# Altium footprint library RC NES connector.PcbLib: 1 footprints
Each footprint in its own frame and in the unit in brackets; x right, y up, seen from the top. Pads: shape width x height; smd on the part's side, far side on the other; paste and mask are expansions set on the pad; w line width, h text height; cw(c..) or ccw(c..) is an arc to the next point about the centre after c.
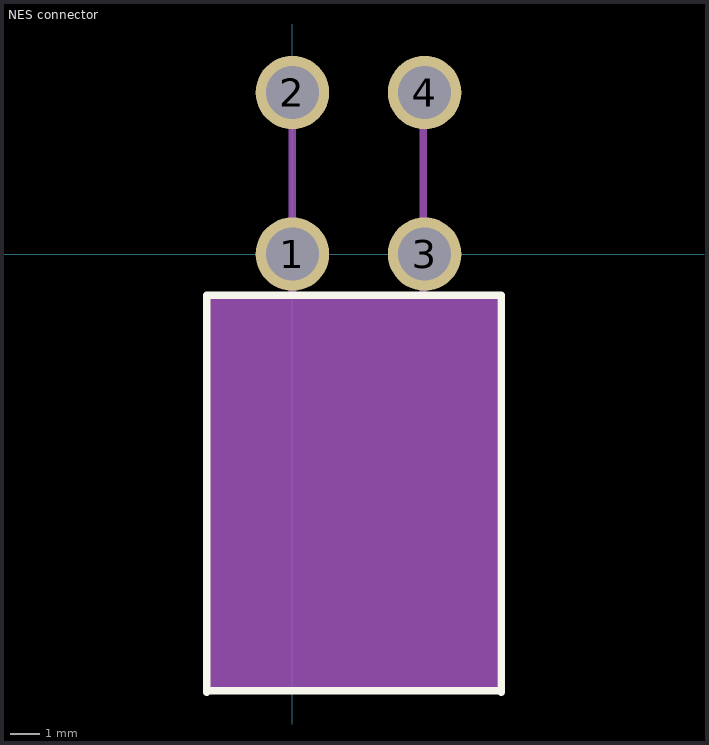
[diagram p0: the footprint, top view; thin cyan lines are the x and y axes]

## NES connector [mm]
pads (4):
  round 2.5 hole 1.8: 1(0,0) 2(0,5.5) 3(4.5,0) 4(4.5,5.5)
Top Overlay:
  lines w0.254: -2.921,-14.907 -2.921,-1.397 ; -2.888,-14.859 7.112,-14.859 ; -2.888,-1.397 7.112,-1.397 7.112,-14.907
Mechanical 1:
  rectangle: -2.921,-14.732 6.985,-1.524
  lines w0.254: 0,-1.524 0,5.5 ; 4.445,-1.524 4.445,5.445